# EAGLE library part PCF85263ATT/AJ (library RTC)
IC RTC CLK/CALENDAR I2C 8TSSOP Manufacturer's datasheet <https://www.nxp.com/docs/en/data-sheet/PCF85263A.pdf>
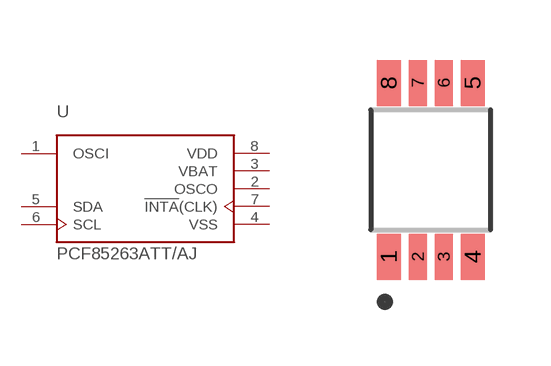
[diagram p0: symbol with the pads of PCF85263ATT/AJ; footprint PCF85263ATT/AJ]

Designator prefix U

## PCF85263ATT/AJ (CREATED_BY: PCBLayout.com; DIGIKEY_PN: 568-12406-1-ND; MANUFACTURER: NXP USA Inc.; MPN: PCF85263ATT/AJ; PACKAGE: 8-TSSOP)  [PCF85263ATT/AJ]
1  OSCI  in
2  OSCO  out
3  VBAT  pwr
4  VSS  pwr
5  SDA
6  SCL  in
7  !INTA!(CLK)  out
8  VDD  pwr

## Footprint PCF85263ATT/AJ (pad centres in mm)
smd 0.6 x 1.15: 1 -1.05,-2.175; 4 1.05,-2.175; 5 1.05,2.175; 8 -1.05,2.175
smd 0.45 x 1.15: 2 -0.325,-2.175; 3 0.325,-2.175; 6 0.325,2.175; 7 -0.325,2.175